# EAGLE library part IC-6B595 (library chuong)
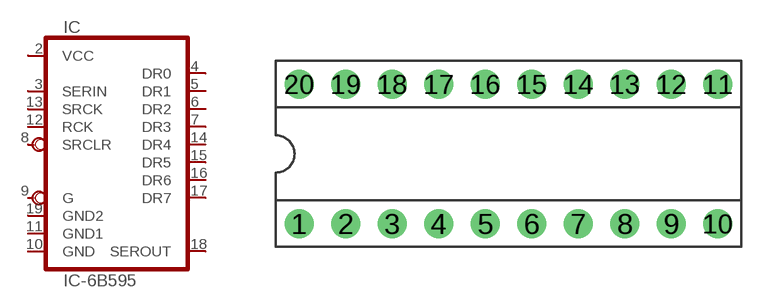
[diagram p14: symbol with the pads of DIP-20\; footprint DIP-20\]

Designator prefix IC

## IC-6B595  [DIP-20\]
2  VCC  in
3  SERIN  in
4  DR0  in
5  DR1  in
6  DR2  in
7  DR3  in
8  SRCLR  out
9  G  out
10  GND  in
11  GND1  in
12  RCK  in
13  SRCK  in
14  DR4  in
15  DR5  in
16  DR6  in
17  DR7  in
18  SEROUT  in
19  GND2  in

## Footprint DIP-20\ (pad centres in mm)
drill 0.61 pad 1.6 round: 1 -11.43,-3.81; 2 -8.89,-3.81; 3 -6.35,-3.81; 4 -3.81,-3.81; 5 -1.27,-3.81; 6 1.27,-3.81; 7 3.81,-3.81; 8 6.35,-3.81; 9 8.89,-3.81; 10 11.43,-3.81; 11 11.43,3.81; 12 8.89,3.81; 13 6.35,3.81; 14 3.81,3.81; 15 1.27,3.81; 16 -1.27,3.81; 17 -3.81,3.81; 18 -6.35,3.81; 19 -8.89,3.81; 20 -11.43,3.81